# Altium schematic symbol library SCH - MCU - NUVOTON - NUVOTON M031KG6AE.SchLib: 1 symbol
Pins are listed as number, name and electrical type; pins without a type are passive.

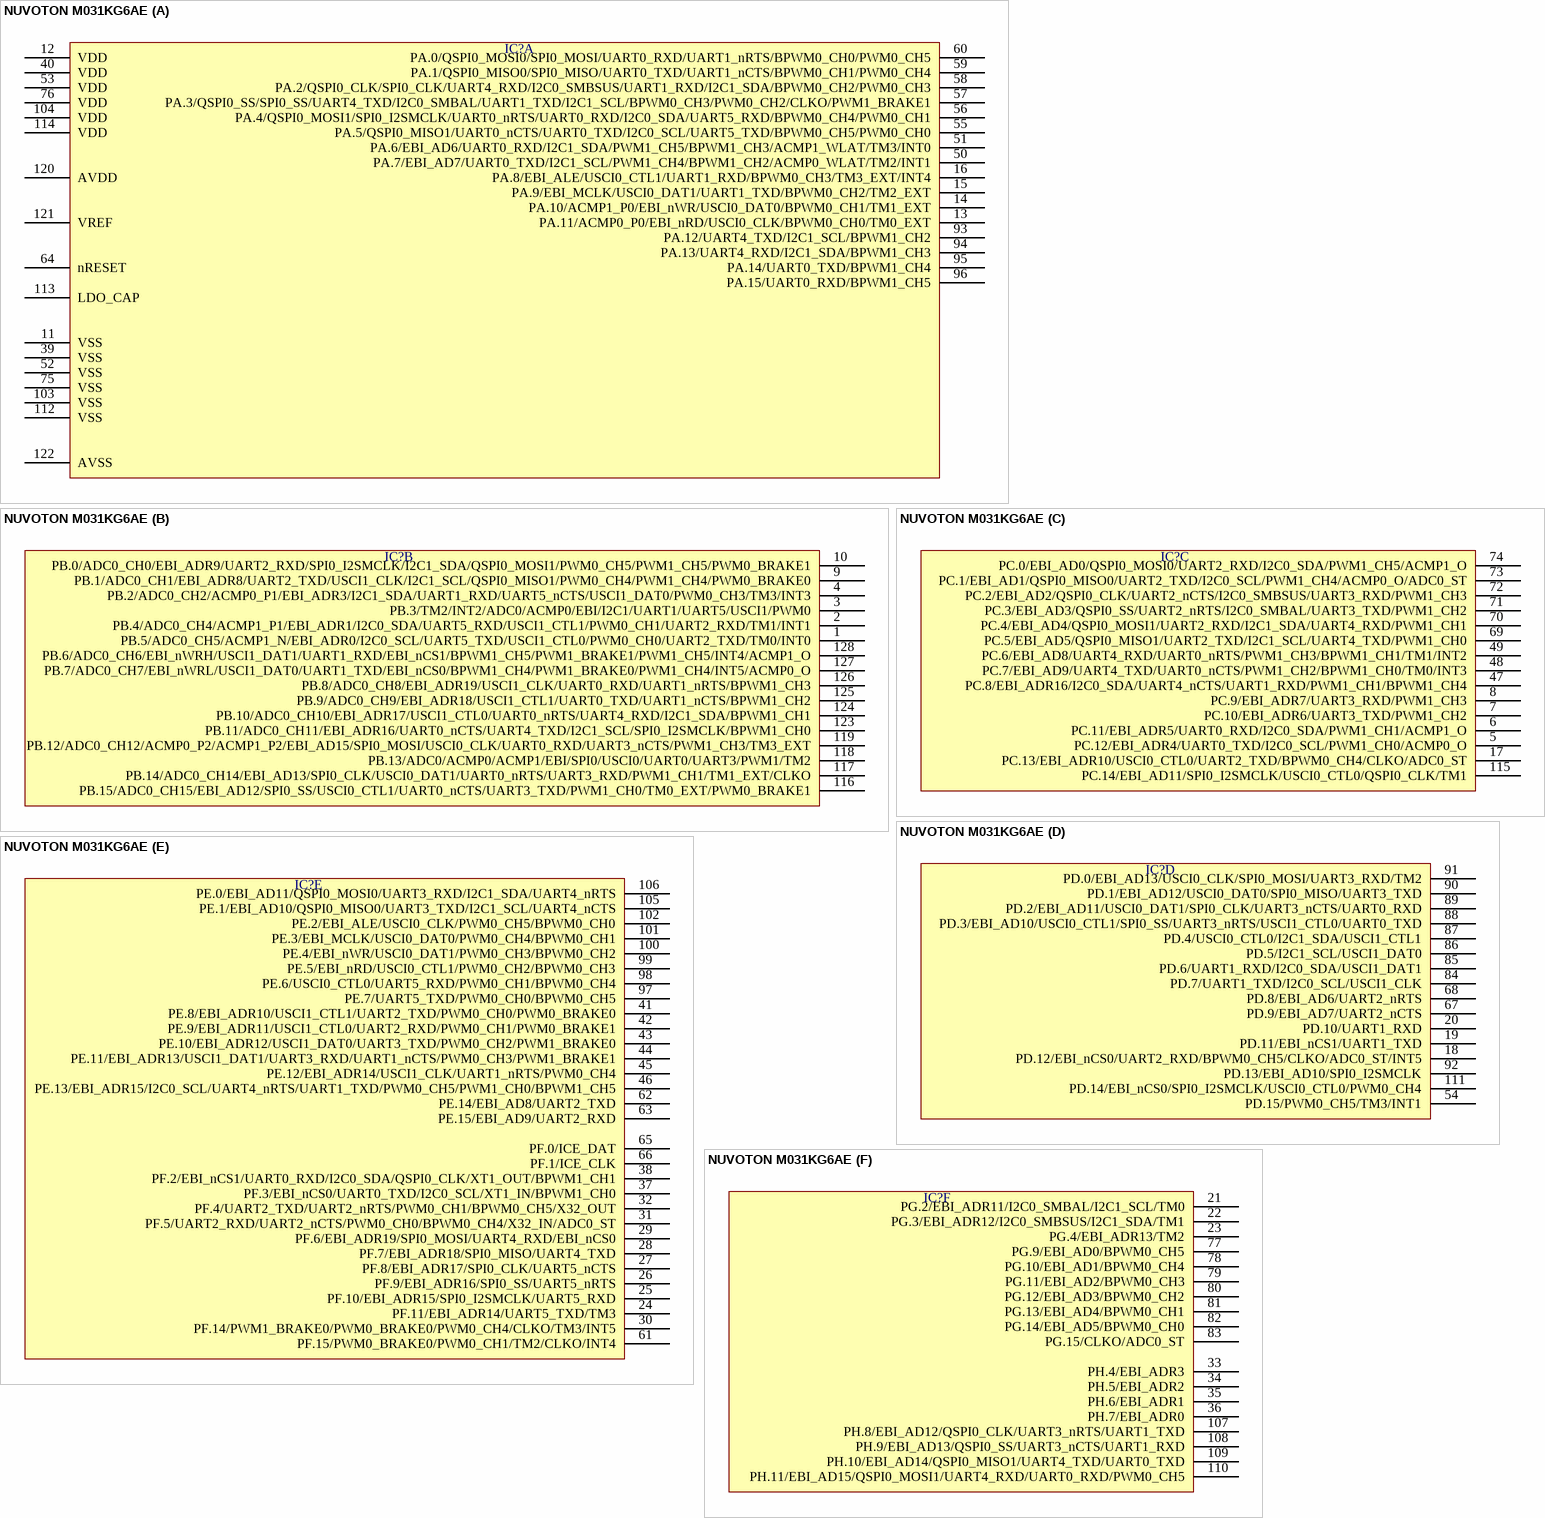
[diagram p0: symbol NUVOTON M031KG6AE]

## NUVOTON M031KG6AE
designator IC?  (value not drawn)
part A pins: 11 VSS, 12 VDD, 13 PA.11/ACMP0_P0/EBI_nRD/USCI0_CLK/BPWM0_CH0/TM0_EXT, 14 PA.10/ACMP1_P0/EBI_nWR/USCI0_DAT0/BPWM0_CH1/TM1_EXT, 15 PA.9/EBI_MCLK/USCI0_DAT1/UART1_TXD/BPWM0_CH2/TM2_EXT, 16 PA.8/EBI_ALE/USCI0_CTL1/UART1_RXD/BPWM0_CH3/TM3_EXT/INT4, 39 VSS, 40 VDD, 50 PA.7/EBI_AD7/UART0_TXD/I2C1_SCL/PWM1_CH4/BPWM1_CH2/ACMP0_WLAT/TM2/INT1, 51 PA.6/EBI_AD6/UART0_RXD/I2C1_SDA/PWM1_CH5/BPWM1_CH3/ACMP1_WLAT/TM3/INT0, 52 VSS, 53 VDD, 55 PA.5/QSPI0_MISO1/UART0_nCTS/UART0_TXD/I2C0_SCL/UART5_TXD/BPWM0_CH5/PWM0_CH0, 56 PA.4/QSPI0_MOSI1/SPI0_I2SMCLK/UART0_nRTS/UART0_RXD/I2C0_SDA/UART5_RXD/BPWM0_CH4/PWM0_CH1, 57 PA.3/QSPI0_SS/SPI0_SS/UART4_TXD/I2C0_SMBAL/UART1_TXD/I2C1_SCL/BPWM0_CH3/PWM0_CH2/CLKO/PWM1_BRAKE1, 58 PA.2/QSPI0_CLK/SPI0_CLK/UART4_RXD/I2C0_SMBSUS/UART1_RXD/I2C1_SDA/BPWM0_CH2/PWM0_CH3, 59 PA.1/QSPI0_MISO0/SPI0_MISO/UART0_TXD/UART1_nCTS/BPWM0_CH1/PWM0_CH4, 60 PA.0/QSPI0_MOSI0/SPI0_MOSI/UART0_RXD/UART1_nRTS/BPWM0_CH0/PWM0_CH5, 64 nRESET, 75 VSS, 76 VDD, 93 PA.12/UART4_TXD/I2C1_SCL/BPWM1_CH2, 94 PA.13/UART4_RXD/I2C1_SDA/BPWM1_CH3, 95 PA.14/UART0_TXD/BPWM1_CH4, 96 PA.15/UART0_RXD/BPWM1_CH5, 103 VSS, 104 VDD, 112 VSS, 113 LDO_CAP, 114 VDD, 120 AVDD, 121 VREF, 122 AVSS
part B pins: 1 PB.5/ADC0_CH5/ACMP1_N/EBI_ADR0/I2C0_SCL/UART5_TXD/USCI1_CTL0/PWM0_CH0/UART2_TXD/TM0/INT0, 2 PB.4/ADC0_CH4/ACMP1_P1/EBI_ADR1/I2C0_SDA/UART5_RXD/USCI1_CTL1/PWM0_CH1/UART2_RXD/TM1/INT1, 3 PB.3/TM2/INT2/ADC0/ACMP0/EBI/I2C1/UART1/UART5/USCI1/PWM0, 4 PB.2/ADC0_CH2/ACMP0_P1/EBI_ADR3/I2C1_SDA/UART1_RXD/UART5_nCTS/USCI1_DAT0/PWM0_CH3/TM3/INT3, 9 PB.1/ADC0_CH1/EBI_ADR8/UART2_TXD/USCI1_CLK/I2C1_SCL/QSPI0_MISO1/PWM0_CH4/PWM1_CH4/PWM0_BRAKE0, 10 PB.0/ADC0_CH0/EBI_ADR9/UART2_RXD/SPI0_I2SMCLK/I2C1_SDA/QSPI0_MOSI1/PWM0_CH5/PWM1_CH5/PWM0_BRAKE1, 116 PB.15/ADC0_CH15/EBI_AD12/SPI0_SS/USCI0_CTL1/UART0_nCTS/UART3_TXD/PWM1_CH0/TM0_EXT/PWM0_BRAKE1, 117 PB.14/ADC0_CH14/EBI_AD13/SPI0_CLK/USCI0_DAT1/UART0_nRTS/UART3_RXD/PWM1_CH1/TM1_EXT/CLKO, 118 PB.13/ADC0/ACMP0/ACMP1/EBI/SPI0/USCI0/UART0/UART3/PWM1/TM2, 119 PB.12/ADC0_CH12/ACMP0_P2/ACMP1_P2/EBI_AD15/SPI0_MOSI/USCI0_CLK/UART0_RXD/UART3_nCTS/PWM1_CH3/TM3_EXT, 123 PB.11/ADC0_CH11/EBI_ADR16/UART0_nCTS/UART4_TXD/I2C1_SCL/SPI0_I2SMCLK/BPWM1_CH0, 124 PB.10/ADC0_CH10/EBI_ADR17/USCI1_CTL0/UART0_nRTS/UART4_RXD/I2C1_SDA/BPWM1_CH1, 125 PB.9/ADC0_CH9/EBI_ADR18/USCI1_CTL1/UART0_TXD/UART1_nCTS/BPWM1_CH2, 126 PB.8/ADC0_CH8/EBI_ADR19/USCI1_CLK/UART0_RXD/UART1_nRTS/BPWM1_CH3, 127 PB.7/ADC0_CH7/EBI_nWRL/USCI1_DAT0/UART1_TXD/EBI_nCS0/BPWM1_CH4/PWM1_BRAKE0/PWM1_CH4/INT5/ACMP0_O, 128 PB.6/ADC0_CH6/EBI_nWRH/USCI1_DAT1/UART1_RXD/EBI_nCS1/BPWM1_CH5/PWM1_BRAKE1/PWM1_CH5/INT4/ACMP1_O
part C pins: 5 PC.12/EBI_ADR4/UART0_TXD/I2C0_SCL/PWM1_CH0/ACMP0_O, 6 PC.11/EBI_ADR5/UART0_RXD/I2C0_SDA/PWM1_CH1/ACMP1_O, 7 PC.10/EBI_ADR6/UART3_TXD/PWM1_CH2, 8 PC.9/EBI_ADR7/UART3_RXD/PWM1_CH3, 17 PC.13/EBI_ADR10/USCI0_CTL0/UART2_TXD/BPWM0_CH4/CLKO/ADC0_ST, 47 PC.8/EBI_ADR16/I2C0_SDA/UART4_nCTS/UART1_RXD/PWM1_CH1/BPWM1_CH4, 48 PC.7/EBI_AD9/UART4_TXD/UART0_nCTS/PWM1_CH2/BPWM1_CH0/TM0/INT3, 49 PC.6/EBI_AD8/UART4_RXD/UART0_nRTS/PWM1_CH3/BPWM1_CH1/TM1/INT2, 69 PC.5/EBI_AD5/QSPI0_MISO1/UART2_TXD/I2C1_SCL/UART4_TXD/PWM1_CH0, 70 PC.4/EBI_AD4/QSPI0_MOSI1/UART2_RXD/I2C1_SDA/UART4_RXD/PWM1_CH1, 71 PC.3/EBI_AD3/QSPI0_SS/UART2_nRTS/I2C0_SMBAL/UART3_TXD/PWM1_CH2, 72 PC.2/EBI_AD2/QSPI0_CLK/UART2_nCTS/I2C0_SMBSUS/UART3_RXD/PWM1_CH3, 73 PC.1/EBI_AD1/QSPI0_MISO0/UART2_TXD/I2C0_SCL/PWM1_CH4/ACMP0_O/ADC0_ST, 74 PC.0/EBI_AD0/QSPI0_MOSI0/UART2_RXD/I2C0_SDA/PWM1_CH5/ACMP1_O, 115 PC.14/EBI_AD11/SPI0_I2SMCLK/USCI0_CTL0/QSPI0_CLK/TM1
part D pins: 18 PD.12/EBI_nCS0/UART2_RXD/BPWM0_CH5/CLKO/ADC0_ST/INT5, 19 PD.11/EBI_nCS1/UART1_TXD, 20 PD.10/UART1_RXD, 54 PD.15/PWM0_CH5/TM3/INT1, 67 PD.9/EBI_AD7/UART2_nCTS, 68 PD.8/EBI_AD6/UART2_nRTS, 84 PD.7/UART1_TXD/I2C0_SCL/USCI1_CLK, 85 PD.6/UART1_RXD/I2C0_SDA/USCI1_DAT1, 86 PD.5/I2C1_SCL/USCI1_DAT0, 87 PD.4/USCI0_CTL0/I2C1_SDA/USCI1_CTL1, 88 PD.3/EBI_AD10/USCI0_CTL1/SPI0_SS/UART3_nRTS/USCI1_CTL0/UART0_TXD, 89 PD.2/EBI_AD11/USCI0_DAT1/SPI0_CLK/UART3_nCTS/UART0_RXD, 90 PD.1/EBI_AD12/USCI0_DAT0/SPI0_MISO/UART3_TXD, 91 PD.0/EBI_AD13/USCI0_CLK/SPI0_MOSI/UART3_RXD/TM2, 92 PD.13/EBI_AD10/SPI0_I2SMCLK, 111 PD.14/EBI_nCS0/SPI0_I2SMCLK/USCI0_CTL0/PWM0_CH4
part E pins: 24 PF.11/EBI_ADR14/UART5_TXD/TM3, 25 PF.10/EBI_ADR15/SPI0_I2SMCLK/UART5_RXD, 26 PF.9/EBI_ADR16/SPI0_SS/UART5_nRTS, 27 PF.8/EBI_ADR17/SPI0_CLK/UART5_nCTS, 28 PF.7/EBI_ADR18/SPI0_MISO/UART4_TXD, 29 PF.6/EBI_ADR19/SPI0_MOSI/UART4_RXD/EBI_nCS0, 30 PF.14/PWM1_BRAKE0/PWM0_BRAKE0/PWM0_CH4/CLKO/TM3/INT5, 31 PF.5/UART2_RXD/UART2_nCTS/PWM0_CH0/BPWM0_CH4/X32_IN/ADC0_ST, 32 PF.4/UART2_TXD/UART2_nRTS/PWM0_CH1/BPWM0_CH5/X32_OUT, 37 PF.3/EBI_nCS0/UART0_TXD/I2C0_SCL/XT1_IN/BPWM1_CH0, 38 PF.2/EBI_nCS1/UART0_RXD/I2C0_SDA/QSPI0_CLK/XT1_OUT/BPWM1_CH1, 41 PE.8/EBI_ADR10/USCI1_CTL1/UART2_TXD/PWM0_CH0/PWM0_BRAKE0, 42 PE.9/EBI_ADR11/USCI1_CTL0/UART2_RXD/PWM0_CH1/PWM0_BRAKE1, 43 PE.10/EBI_ADR12/USCI1_DAT0/UART3_TXD/PWM0_CH2/PWM1_BRAKE0, 44 PE.11/EBI_ADR13/USCI1_DAT1/UART3_RXD/UART1_nCTS/PWM0_CH3/PWM1_BRAKE1, 45 PE.12/EBI_ADR14/USCI1_CLK/UART1_nRTS/PWM0_CH4, 46 PE.13/EBI_ADR15/I2C0_SCL/UART4_nRTS/UART1_TXD/PWM0_CH5/PWM1_CH0/BPWM1_CH5, 61 PF.15/PWM0_BRAKE0/PWM0_CH1/TM2/CLKO/INT4, 62 PE.14/EBI_AD8/UART2_TXD, 63 PE.15/EBI_AD9/UART2_RXD, 65 PF.0/ICE_DAT, 66 PF.1/ICE_CLK, 97 PE.7/UART5_TXD/PWM0_CH0/BPWM0_CH5, 98 PE.6/USCI0_CTL0/UART5_RXD/PWM0_CH1/BPWM0_CH4, 99 PE.5/EBI_nRD/USCI0_CTL1/PWM0_CH2/BPWM0_CH3, 100 PE.4/EBI_nWR/USCI0_DAT1/PWM0_CH3/BPWM0_CH2, 101 PE.3/EBI_MCLK/USCI0_DAT0/PWM0_CH4/BPWM0_CH1, 102 PE.2/EBI_ALE/USCI0_CLK/PWM0_CH5/BPWM0_CH0, 105 PE.1/EBI_AD10/QSPI0_MISO0/UART3_TXD/I2C1_SCL/UART4_nCTS, 106 PE.0/EBI_AD11/QSPI0_MOSI0/UART3_RXD/I2C1_SDA/UART4_nRTS
part F pins: 21 PG.2/EBI_ADR11/I2C0_SMBAL/I2C1_SCL/TM0, 22 PG.3/EBI_ADR12/I2C0_SMBSUS/I2C1_SDA/TM1, 23 PG.4/EBI_ADR13/TM2, 33 PH.4/EBI_ADR3, 34 PH.5/EBI_ADR2, 35 PH.6/EBI_ADR1, 36 PH.7/EBI_ADR0, 77 PG.9/EBI_AD0/BPWM0_CH5, 78 PG.10/EBI_AD1/BPWM0_CH4, 79 PG.11/EBI_AD2/BPWM0_CH3, 80 PG.12/EBI_AD3/BPWM0_CH2, 81 PG.13/EBI_AD4/BPWM0_CH1, 82 PG.14/EBI_AD5/BPWM0_CH0, 83 PG.15/CLKO/ADC0_ST, 107 PH.8/EBI_AD12/QSPI0_CLK/UART3_nRTS/UART1_TXD, 108 PH.9/EBI_AD13/QSPI0_SS/UART3_nCTS/UART1_RXD, 109 PH.10/EBI_AD14/QSPI0_MISO1/UART4_TXD/UART0_TXD, 110 PH.11/EBI_AD15/QSPI0_MOSI1/UART4_RXD/UART0_RXD/PWM0_CH5